# EAGLE library part M24-8A1 (library con-vg)
CONNECTOR male, 24 pins + 8 high current, type C, rows ABC, grid 2.54 mm
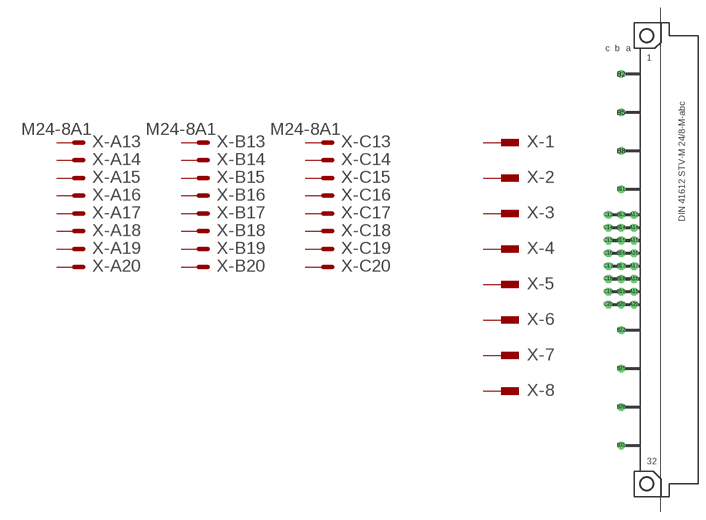
[diagram p91: symbol with the pads of M24-8A1; footprint M24-8A1]

Designator prefix X; gates -A13=MVAL -A14=MAL -A15=MAL -A16=MAL -A17=MAL -A18=MAL -A19=MAL -A20=MAL -B13=MVAL -B14=MAL -B15=MAL -B16=MAL -B17=MAL -B18=MAL -B19=MAL -B20=MAL -C13=MVAL -C14=MAL -C15=MAL -C16=MAL -C17=MAL -C18=MAL -C19=MAL -C20=MAL -1=MAL-HIGHCUR -2=MAL-HIGHCUR -3=MAL-HIGHCUR -4=MAL-HIGHCUR -5=MAL-HIGHCUR -6=MAL-HIGHCUR -7=MAL-HIGHCUR -8=MAL-HIGHCUR

## M24-8A1  [M24-8A1]
A13  -A13:S  pas
A14  -A14:S  pas
A15  -A15:S  pas
A16  -A16:S  pas
A17  -A17:S  pas
A18  -A18:S  pas
A19  -A19:S  pas
A20  -A20:S  pas
B2  -1:B  pas
B5  -2:B  pas
B8  -3:B  pas
B11  -4:B  pas
B13  -B13:S  pas
B14  -B14:S  pas
B15  -B15:S  pas
B16  -B16:S  pas
B17  -B17:S  pas
B18  -B18:S  pas
B19  -B19:S  pas
B20  -B20:S  pas
B22  -5:B  pas
B25  -6:B  pas
B28  -7:B  pas
B31  -8:B  pas
C13  -C13:S  pas
C14  -C14:S  pas
C15  -C15:S  pas
C16  -C16:S  pas
C17  -C17:S  pas
C18  -C18:S  pas
C19  -C19:S  pas
C20  -C20:S  pas

## Footprint M24-8A1 (pad centres in mm)
CONNECTOR male, 24 pins + 8 high current, type C, rows ABC, grid 2.54 mm
drill 1.016 octagon: A13 -2.54,8.89; A14 -2.54,6.35; A15 -2.54,3.81; A16 -2.54,1.27; A17 -2.54,-1.27; A18 -2.54,-3.81; A19 -2.54,-6.35; A20 -2.54,-8.89; B2 -5.08,36.83; B5 -5.08,29.21; B8 -5.08,21.59; B11 -5.08,13.97; B13 -5.08,8.89; B14 -5.08,6.35; B15 -5.08,3.81; B16 -5.08,1.27; B17 -5.08,-1.27; B18 -5.08,-3.81; B19 -5.08,-6.35; B20 -5.08,-8.89; B22 -5.08,-13.97; B25 -5.08,-21.59; B28 -5.08,-29.21; B31 -5.08,-36.83; C13 -7.62,8.89; C14 -7.62,6.35; C15 -7.62,3.81; C16 -7.62,1.27; C17 -7.62,-1.27; C18 -7.62,-3.81; C19 -7.62,-6.35; C20 -7.62,-8.89
hole 2.8 at 0,44.45
hole 2.8 at 0,-44.45